# EAGLE library part TSCS25 (library Tempo Semiconductor)
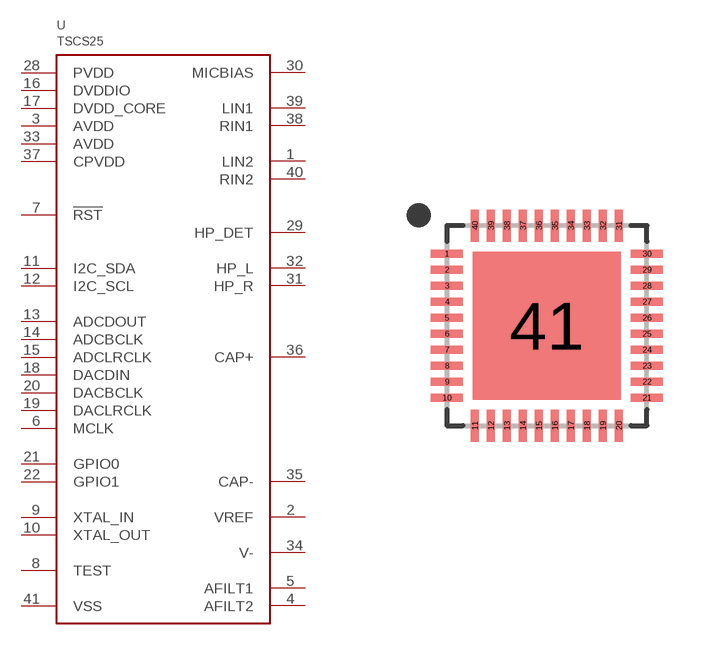
[diagram p0: symbol with the pads of QFN40; footprint QFN40]

Designator prefix U

## TSCS25A3X1NDGXZAX  [QFN40]
1  LIN2
2  VREF
3  AVDD
4  AFILT2
5  AFILT1
6  MCLK
7  !RST
8  TEST
9  XTAL_IN
10  XTAL_OUT
11  I2C_SDA
12  I2C_SCL
13  ADCDOUT
14  ADCBCLK
15  ADCLRCLK
16  DVDDIO
17  DVDD_CORE
18  DACDIN
19  DACLRCLK
20  DACBCLK
21  GPIO0
22  GPIO1
28  PVDD
29  HP_DET
30  MICBIAS
31  HP_R
32  HP_L
33  AVDD
34  V-
35  CAP-
36  CAP+
37  CPVDD
38  RIN1
39  LIN1
40  RIN2
41  VSS

## Footprint QFN40 (pad centres in mm)
smd 0.8 x 0.2: 1 -2.5,1.8; 2 -2.5,1.4; 3 -2.5,1; 4 -2.5,0.6; 5 -2.5,0.2; 6 -2.5,-0.2; 7 -2.5,-0.6; 8 -2.5,-1; 9 -2.5,-1.4; 10 -2.5,-1.8; 21 2.5,-1.8; 22 2.5,-1.4; 23 2.5,-1; 24 2.5,-0.6; 25 2.5,-0.2; 26 2.5,0.2; 27 2.5,0.6; 28 2.5,1; 29 2.5,1.4; 30 2.5,1.8
smd 0.2 x 0.8: 11 -1.8,-2.5; 12 -1.4,-2.5; 13 -1,-2.5; 14 -0.6,-2.5; 15 -0.2,-2.5; 16 0.2,-2.5; 17 0.6,-2.5; 18 1,-2.5; 19 1.4,-2.5; 20 1.8,-2.5; 31 1.8,2.5; 32 1.4,2.5; 33 1,2.5; 34 0.6,2.5; 35 0.2,2.5; 36 -0.2,2.5; 37 -0.6,2.5; 38 -1,2.5; 39 -1.4,2.5; 40 -1.8,2.5
smd 3.7 x 3.7: 41 0,0